# Altium footprint library Capacitor.PcbLib: 45 footprints (part 1 of 3)
Each footprint in its own frame and in the unit in brackets; x right, y up, seen from the top. Pads: shape width x height; smd on the part's side, far side on the other; paste and mask are expansions set on the pad; w line width, h text height; cw(c..) or ccw(c..) is an arc to the next point about the centre after c.
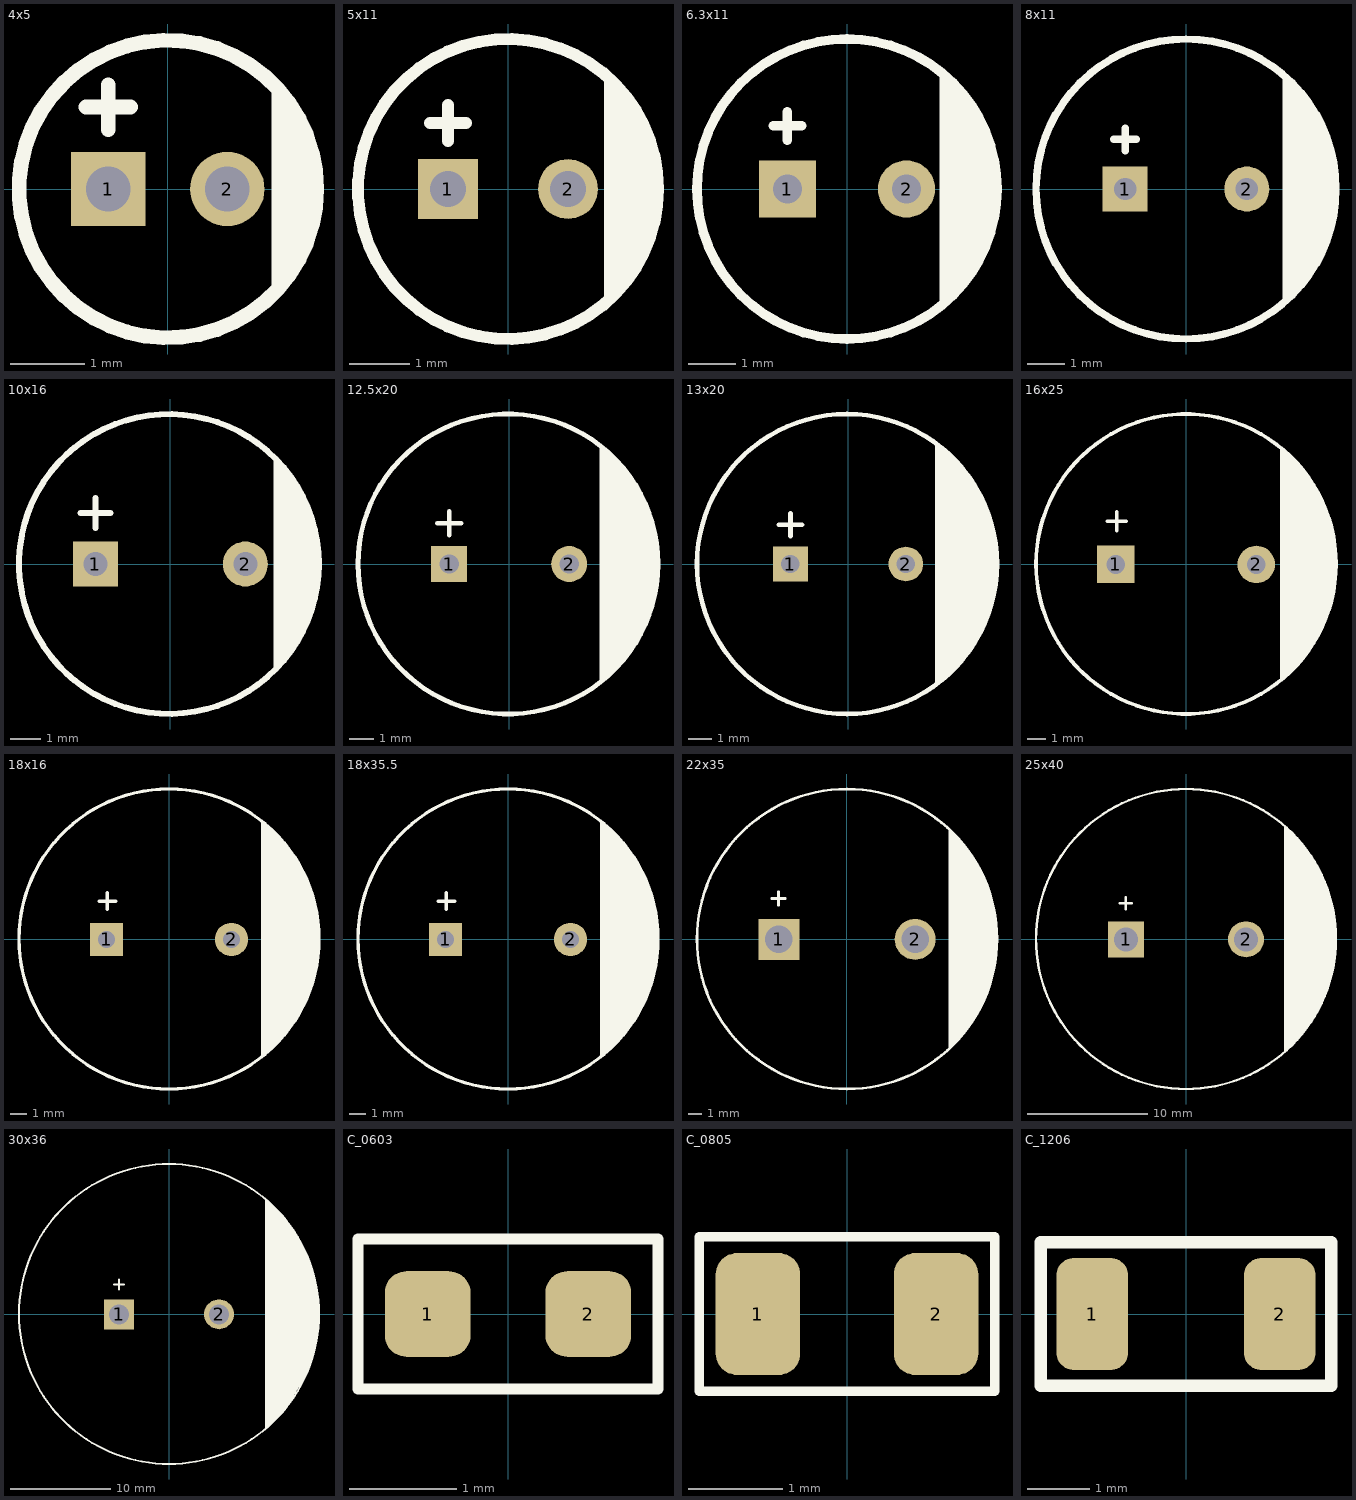
[diagram p0: the footprints below, top view; thin cyan lines are the x and y axes]

## 4x5 [mm] "Electrolytic Capacitors Pin"
height 5
pads (2):
  rect 1x1 hole 0.6: 1(-0.8,0)
  round 1 hole 0.6: 2(0.8,0)
Top Overlay:
  circle w0.2: c0,0 r2
  region: 1.4,-1.45 1.549,-1.315 1.786,-0.989 1.949,-0.62 2.032,-0.226 2.032,0.176 1.949,0.57 1.786,0.939 1.549,1.265 1.4,1.4
  lines w0.2: -1.1,1.1 -0.5,1.1 ; -0.8,0.8 -0.8,1.4
3D body "Capacitor 3x5.STEP": height 2.2, standoff -5.51, extent -1.5,-1.5 1.497,1.5

## 5x11 [mm] "Electrolytic Capacitors Pin"
height 11
pads (2):
  rect 1x1 hole 0.6: 1(-1,0)
  round 1 hole 0.6: 2(1,0)
Top Overlay:
  circle w0.2: c0,0 r2.5
  region: 1.6,-1.9 1.732,-1.78 1.962,-1.506 2.15,-1.203 2.295,-0.876 2.394,-0.533 2.443,-0.179 2.443,0.179 2.394,0.533 2.295,0.876 2.15,1.203 1.962,1.506 1.732,1.78 1.6,1.9
  lines w0.2: -1.3,1.1 -0.7,1.1 ; -1,0.8 -1,1.4
3D body "Capacitor 5x7x2mm.STEP": height 7.53, standoff -3.27, extent -2.525,-2.525 2.525,2.525

## 6.3x11 [mm] "Electrolytic Capacitors Pin"
height 11
pads (2):
  rect 1.2x1.2 hole 0.6: 1(-1.25,0)
  round 1.2 hole 0.6: 2(1.25,0)
Top Overlay:
  circle w0.2: c0,0 r3.15
  region: 1.95,-2.5 2.123,-2.343 2.423,-1.984 2.671,-1.587 2.86,-1.159 2.989,-0.71 3.054,-0.246 3.054,0.221 2.989,0.685 2.86,1.134 2.671,1.562 2.423,1.959 2.123,2.318 1.95,2.475
  lines w0.2: -1.55,1.325 -0.95,1.325 ; -1.25,1.025 -1.25,1.625
3D body "Capacitor 6.3x11x2.5mm.STEP": height 11.53, standoff -3.01, extent -3.175,-3.2 3.175,3.15

## 8x11 [mm] "Electrolytic Capacitors Pin"
height 11
pads (2):
  rect 1.2x1.2 hole 0.6: 1(-1.625,0)
  round 1.2 hole 0.6: 2(1.625,0)
Top Overlay:
  circle w0.2: c0,0 r4
  region: 2.575,-3.05 2.789,-2.857 3.158,-2.415 3.462,-1.926 3.696,-1.4 3.854,-0.846 3.934,-0.275 3.934,0.3 3.854,0.871 3.696,1.425 3.462,1.951 3.158,2.44 2.789,2.882 2.575,3.075
  lines w0.2: -1.925,1.325 -1.325,1.325 ; -1.625,1.025 -1.625,1.625
3D body "Capacitor 8x11.5x3.5mm.STEP": height 12.03, standoff -3.48, extent -4.025,-4 4.025,4.05

## 10x16 [mm] "Electrolytic Capacitors Pin"
height 16
pads (2):
  rect 1.5x1.5 hole 0.8: 1(-2.5,0)
  round 1.5 hole 0.8: 2(2.5,0)
Top Overlay:
  region: 3.45,-3.6 3.632,-3.427 3.959,-3.046 4.244,-2.632 4.485,-2.191 4.678,-1.727 4.822,-1.246 4.915,-0.752 4.956,-0.251 4.95,0 4.955,0.25 4.913,0.747 4.82,1.238 4.675,1.716 4.482,2.177 4.242,2.615 3.957,3.025 3.632,3.404 3.45,3.575
  lines w0.2: -3,1.7 -2,1.7 ; -2.5,1.2 -2.5,2.2 ; 4.95,0 ccw(c-0.05,0) 4.95,0
3D body "Capacitor 10X12 ELECTROLITIC.STEP": height 12, standoff -2.5, extent -5.05,-5 4.95,5

## 12.5x20 [mm] "Electrolytic Capacitors Pin"
height 20
pads (2):
  rect 1.5x1.5 hole 0.8: 1(-2.5,0)
  round 1.5 hole 0.8: 2(2.5,0)
Top Overlay:
  region: 3.775,-4.975 4.048,-4.745 4.542,-4.232 4.981,-3.67 5.358,-3.065 5.671,-2.424 5.915,-1.754 6.088,-1.062 6.187,-0.356 6.2,0 6.187,0.355 6.086,1.058 5.912,1.746 5.668,2.413 5.356,3.051 4.979,3.652 4.541,4.212 4.047,4.722 3.775,4.95
  lines w0.2: -3,1.7 -2,1.7 ; -2.5,1.2 -2.5,2.2 ; 6.2,0 ccw(c-0.05,0) 6.2,0
3D body "Capacitor 12.5x20_.STEP": height 20.03, standoff -1.5, extent -6.275,-6.25 6.255,6.25

## 13x20 [mm] "Electrolytic Capacitors Pin"
height 20
pads (2):
  rect 1.5x1.5 hole 0.8: 1(-2.5,0)
  round 1.5 hole 0.8: 2(2.5,0)
Top Overlay:
  region: 3.775,-5.25 4.07,-5.011 4.606,-4.474 5.083,-3.883 5.497,-3.247 5.841,-2.57 6.113,-1.862 6.31,-1.129 6.43,-0.379 6.45,0 6.429,0.378 6.309,1.124 6.111,1.854 5.839,2.559 5.494,3.233 5.081,3.866 4.604,4.453 4.069,4.987 3.775,5.225
  lines w0.2: -3,1.7 -2,1.7 ; -2.5,1.2 -2.5,2.2 ; 6.45,0 ccw(c-0.05,0) 6.45,0
3D body "Capacitor 12.5x20_.STEP": height 20.03, standoff -1.5, extent -6.275,-6.25 6.255,6.25

## 16x25 [mm] "Electrolytic Capacitors Pin"
height 25
pads (2):
  rect 2x2 hole 1: 1(-3.75,0)
  round 2 hole 1: 2(3.75,0)
Top Overlay:
  circle w0.2: c0,0.025 r8
  region: 5.025,-6.175 5.362,-5.888 5.973,-5.246 6.513,-4.544 6.978,-3.79 7.361,-2.991 7.659,-2.157 7.868,-1.296 7.987,-0.418 8,0.025 7.987,0.468 7.868,1.346 7.659,2.207 7.361,3.041 6.978,3.84 6.513,4.594 5.973,5.296 5.362,5.938 5.025,6.225
  lines w0.2: -4.2,2.3 -3.2,2.3 ; -3.7,1.8 -3.7,2.8
3D body "Capacitor 16x25 .STEP": height 26.1, standoff -2.8, extent -8.208,-8.23 8.275,8.23

## 18x16 [mm] "Electrolytic Capacitors Pin"
height 16
pads (2):
  rect 2x2 hole 1: 1(-3.75,0)
  round 2 hole 1: 2(3.75,0)
Top Overlay:
  circle w0.2: c0,0.025 r9
  region: 5.525,-7.05 5.785,-6.833 6.272,-6.364 6.726,-5.862 7.144,-5.33 7.523,-4.77 7.863,-4.184 8.161,-3.577 8.417,-2.95 8.628,-2.308 8.794,-1.652 8.914,-0.986 8.987,-0.313 9,0.025 8.987,0.363 8.914,1.036 8.794,1.702 8.628,2.358 8.417,3 8.161,3.627 7.863,4.234 7.523,4.82 7.144,5.38 6.726,5.912 6.272,6.414 5.784,6.883 5.525,7.1
  lines w0.2: -4.2,2.3 -3.2,2.3 ; -3.7,1.8 -3.7,2.8
3D body "Capacitor 18x16.STEP": height 16, standoff -2, extent -9,-8.963 9,9

## 18x35.5 [mm] "Electrolytic Capacitors Pin"
height 35.5
pads (2):
  rect 2x2 hole 1: 1(-3.75,0)
  round 2 hole 1: 2(3.75,0)
Top Overlay:
  circle w0.2: c0,0.025 r9
  region: 5.525,-7.05 5.785,-6.833 6.272,-6.364 6.726,-5.862 7.144,-5.33 7.523,-4.77 7.863,-4.184 8.161,-3.577 8.417,-2.95 8.628,-2.308 8.794,-1.652 8.914,-0.986 8.987,-0.313 9,0.025 8.987,0.363 8.914,1.036 8.794,1.702 8.628,2.358 8.417,3 8.161,3.627 7.863,4.234 7.523,4.82 7.144,5.38 6.726,5.912 6.272,6.414 5.784,6.883 5.525,7.1
  lines w0.2: -4.2,2.3 -3.2,2.3 ; -3.7,1.8 -3.7,2.8
3D body "Capacitor 18x35.5.STEP": height 37.5, standoff -3, extent -9.175,-9.197 9.246,9.246

## 22x35 [mm] "Electrolytic Capacitors Pin"
height 35
pads (2):
  rect 3x3 hole 2: 1(-5,0)
  round 3 hole 2: 2(5,0)
Top Overlay:
  circle w0.2: c0,0.025 r11
  region: 7.45,-8.075 7.73,-7.819 8.254,-7.269 8.738,-6.685 9.18,-6.068 9.579,-5.421 9.931,-4.749 10.236,-4.054 10.491,-3.339 10.697,-2.608 10.851,-1.864 10.952,-1.112 11.002,-0.355 11,0.025 11,0.401 10.948,1.15 10.844,1.894 10.688,2.629 10.481,3.351 10.225,4.057 9.92,4.744 9.569,5.408 9.172,6.046 8.731,6.654 8.249,7.231 7.729,7.772 7.45,8.024
  lines w0.2: -5.525,3 -4.525,3 ; -5.025,2.5 -5.025,3.5
3D body "Capacitor 22x25.STEP": height 25, standoff 0, extent -11.025,-10.95 10.975,11.05

## 25x40 [mm] "Electrolytic Capacitors Pin"
height 40
pads (2):
  rect 3x3 hole 2: 1(-5,0)
  round 3 hole 2: 2(5,0)
Top Overlay:
  circle w0.2: c0,0.025 r12.5
  region: 8.2,-9.4 8.533,-9.105 9.156,-8.47 9.733,-7.794 10.262,-7.079 10.74,-6.329 11.164,-5.548 11.533,-4.739 11.845,-3.906 12.098,-3.053 12.292,-2.185 12.424,-1.306 12.495,-0.42 12.5,0.025 12.495,0.47 12.424,1.356 12.292,2.235 12.099,3.103 11.845,3.956 11.534,4.789 11.164,5.598 10.74,6.379 10.262,7.129 9.733,7.844 9.156,8.52 8.533,9.155 8.2,9.45
  lines w0.2: -5.525,3 -4.525,3 ; -5.025,2.5 -5.025,3.5
3D body "Capacitor 25x40.STEP": height 42.2, standoff -2.5, extent -12.675,-12.65 12.725,12.75

## 30x36 [mm] "Electrolytic Capacitors Pin"
height 36
pads (2):
  rect 3x3 hole 2: 1(-5,0)
  round 3 hole 2: 2(5,0)
Top Overlay:
  circle w0.2: c0,0.025 r15
  region: 9.65,-11.425 10.063,-11.059 10.835,-10.271 11.55,-9.43 12.206,-8.543 12.798,-7.612 13.324,-6.641 13.781,-5.637 14.167,-4.603 14.48,-3.545 14.719,-2.468 14.883,-1.377 14.97,-0.277 14.975,0.275 14.962,0.808 14.861,1.87 14.686,2.922 14.439,3.959 14.12,4.977 13.731,5.97 13.274,6.934 12.751,7.863 12.164,8.754 11.517,9.602 10.813,10.403 10.054,11.152 9.65,11.5
  lines w0.2: -5.525,3 -4.525,3 ; -5.025,2.5 -5.025,3.5
3D body "Capacitor 30x36.STEP": height 36.83, standoff -6.89, extent -15.278,-15.25 15.202,15.224

## C_0603 [mm] "Ceramic Capacitors SMD"
height 0.87
pads (2):
  rrect50% 0.8x0.8 smd: 1(-0.75,0) 2(0.75,0)
Top Overlay:
  lines w0.1: -1.4,-0.7 -1.4,0.7 1.4,0.7 1.4,-0.7 -1.4,-0.7
3D body "0603_SMD_Capacitor.STEP": height 0.3, standoff 0, extent -0.8,-0.4 0.8,0.4

## C_0805 [mm] "Ceramic Capacitors SMD"
height 2.54
pads (2):
  rrect50% 0.9x1.3 smd: 1(-0.95,0) 2(0.95,0)
Top Overlay:
  lines w0.1: -1.575,-0.825 -1.575,0.825 1.575,0.825 1.575,-0.825 -1.575,-0.825
3D body "0805_SMD_Capacitor.STEP": height 0.78, standoff 0, extent -1,-0.625 1,0.625

## C_1206 [mm] "Ceramic Capacitors SMD"
height 3.048
pads (2):
  rrect50% 1.15x1.8 smd: 1(-1.5,0) 2(1.5,0)
Top Overlay:
  lines w0.2: -2.325,-1.15 -2.325,1.15 2.325,1.15 2.325,-1.15 -2.325,-1.15
3D body "1206_SMD_Capacitor.STEP": height 1, standoff 0, extent -1.6,-0.8 1.6,0.8